# EAGLE library part DRV8805 (library DRV8805)
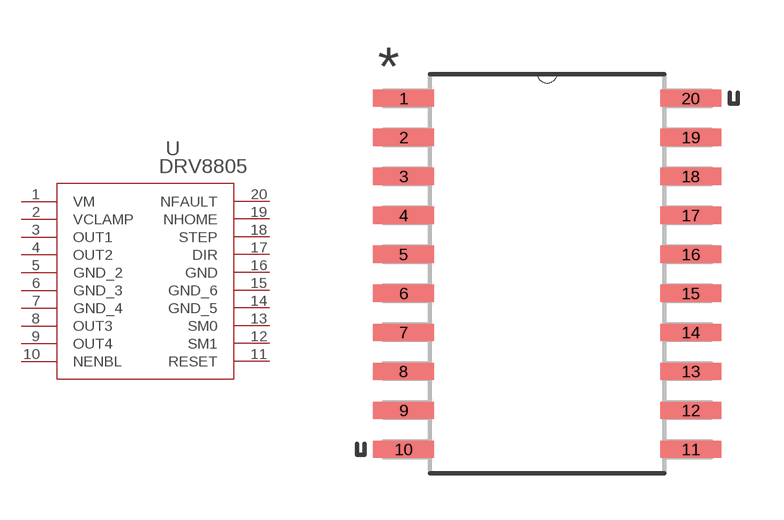
[diagram p0: symbol with the pads of DW20; footprint DW20]

Designator prefix -

## DRV8805  [DW20]
1  VM  pwr
2  VCLAMP  out
3  OUT1  out
4  OUT2  out
5  GND_2  pwr
6  GND_3  pwr
7  GND_4  pwr
8  OUT3  out
9  OUT4  out
10  NENBL  in
11  RESET  in
12  SM1  in
13  SM0  in
14  GND_5  pwr
15  GND_6  pwr
16  GND  pwr
17  DIR  in
18  STEP  in
19  NHOME  out
20  NFAULT  out

## Footprint DW20 (pad centres in mm)
smd 1.981 x 0.559: 1 -4.674,5.715; 2 -4.674,4.445; 3 -4.674,3.175; 4 -4.674,1.905; 5 -4.674,0.635; 6 -4.674,-0.635; 7 -4.674,-1.905; 8 -4.674,-3.175; 9 -4.674,-4.445; 10 -4.674,-5.715; 11 4.674,-5.715; 12 4.674,-4.445; 13 4.674,-3.175; 14 4.674,-1.905; 15 4.674,-0.635; 16 4.674,0.635; 17 4.674,1.905; 18 4.674,3.175; 19 4.674,4.445; 20 4.674,5.715